# Altium integrated library schottlky diode 5A.IntLib: 2 symbols
Pins are listed as number, name and electrical type; pins without a type are passive.

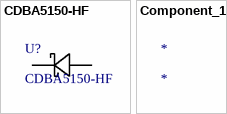
[diagram p0: symbols CDBA5150-HF to Component_1]

## CDBA5150-HF
designator U?
No Description Available; Vendor: Comchip; Built_By: EMA_UL_Team; SourceLibrary: ComchipTechnology_2015-04-20; Manufacturer_Part_Number: CDBA5150-HF; Copyright: Copyright (C) 2018 Accelerated Designs. All rights reserved; RefDes: RefDes; Type: DEV
footprint CDBA5
pins: 1, 2

## Component_1
designator *